# Altium schematic symbol library PIR.Schlib: 1 symbol
Pins are listed as number, name and electrical type; pins without a type are passive.

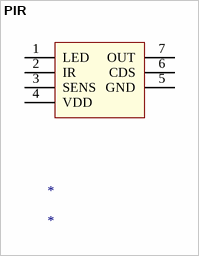
[diagram p0: symbol PIR]

## PIR
designator *
pins: 1 LED, 2 IR, 3 SENS, 4 VDD, 5 GND, 6 CDS, 7 OUT